# Altium integrated library TI Amplifiers and Linear Operational Amplifier Fully Differential Amplifier.IntLib: 262 symbols (part 7 of 11)
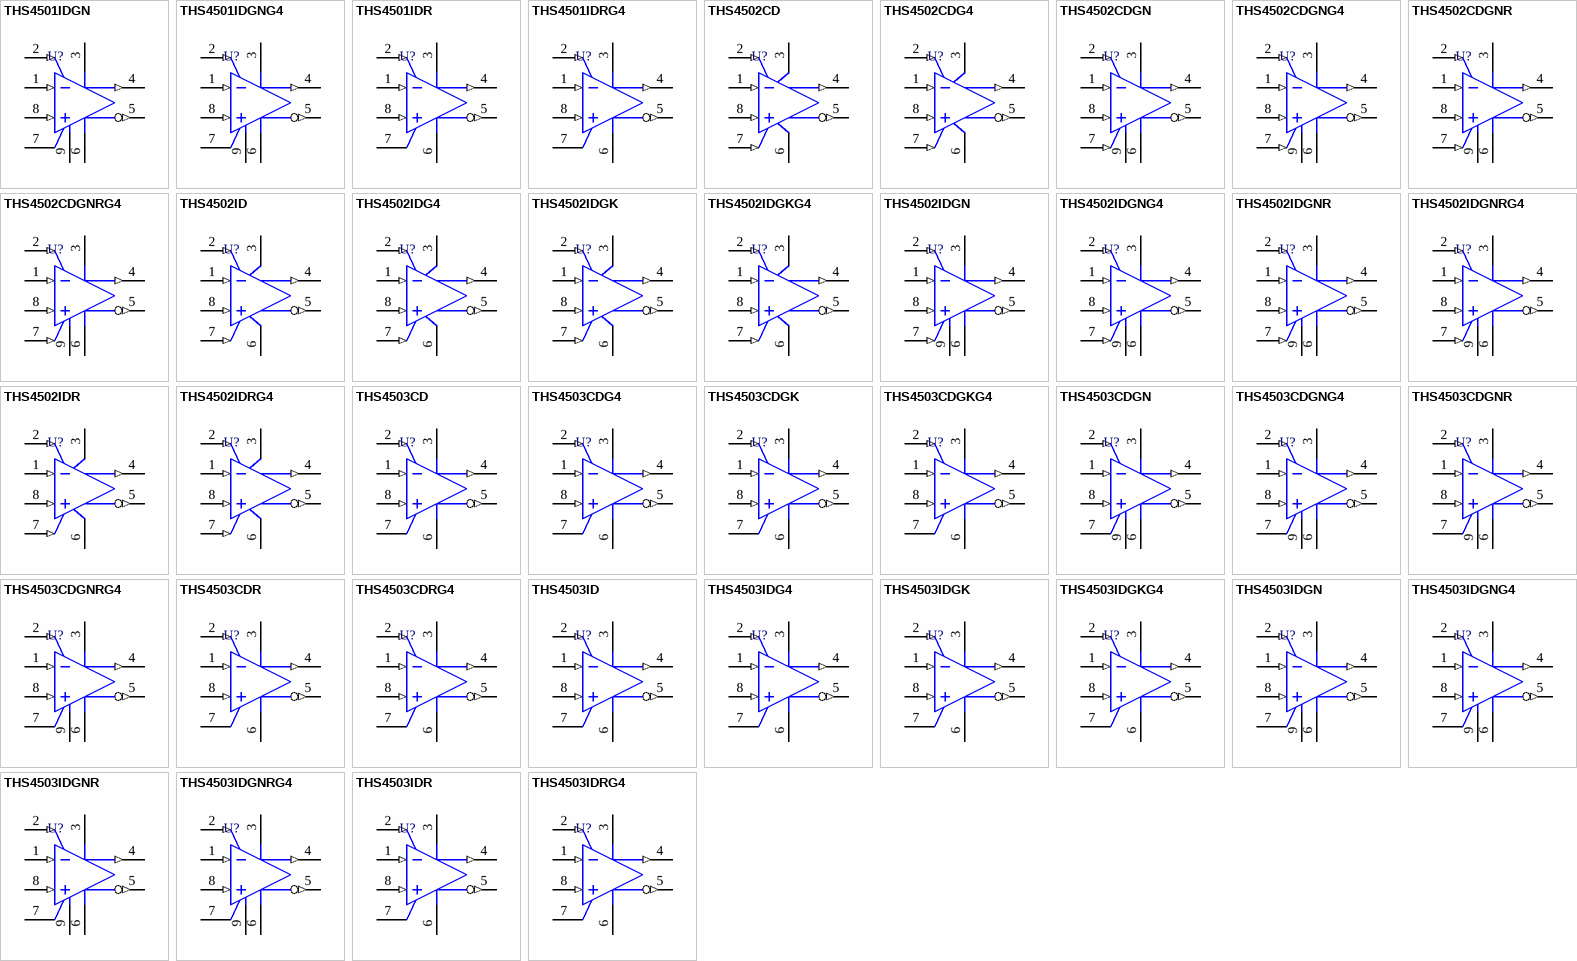
[diagram p13: symbols THS4501IDGN to THS4503IDRG4]

## THS4501IDGNG4
designator U?
High-Speed Fully Differential Amplifier, 4.5 to 15 V, -40 to 85 degC, 8-pin SOP (DGN8), Green (RoHS & no Sb/Br); Manufacturer: Texas Instruments; PartNumber: THS4501IDGNG4; 2nd Harmonic(dBc): 55; 3rd Harmonic(dBc): 60; @ MHz: 30; BW @ Acl(MHz): 320; Io(Typ)(mA): 100; Iq per channel(Max)(mA): 31; Number of Channels: 1; Offset Voltage Drift (+/-)(Max)(uV/Degrees Celsius: 10; Settling Time (0.1%)(Typ)(ns): 8.3; Slew Rate(Typ)(V/us): 1300; THD (Fc is 1 MHz)(Typ)(dB): -70; Vio(Max)(mV): -7; Vn at Flatband(Typ)(nV/rtHz): 7; Vs(Max)(V): 15; Vs(Min)(V): 4.5; DatasheetVersion: SLOS350F; PackageVersion: 4073271/F, 05/2011; PackageReference: DGN8-1760X1425TP; PackageDescription: 8-Pin Plastic Small Outline, Body 3 x 3 mm, Pitch 0.65 mm; Supplier 1: Digi-Key; Supplier Part Number 1: THS4501IDGNG4-ND; Supplier 2: Mouser; Supplier Part Number 2: 595-THS4501IDGNG4; Eco-Plan: Green (RoHS & no Sb/Br); SubFamily: Fully Differential Amplifier; Mounting Technology: Surface Mount; Code_JEDEC: MO-187; ComponentLink1Description: Manufacturer URL; ComponentLink1URL: http://www.ti.com/; ComponentLink2Description: Datasheet; ComponentLink2URL: http://www.ti.com/general/docs/lit/getliterature.tsp?genericPartNumber=THS4501&fileType=pdf; ComponentLink3Description: Package Specification; ComponentLink3URL: http://www.ti.com/litv/pdf/mpds046e
footprint TI-DGN8-1760X1425TP_N (SOP, 8-Leads, Body 3x3mm, Pitch 0.65mm, Thermal Pad 1.76x1.425mm, IPC Medium Density)
footprint TI-DGN8-1760X1425TP_L (SOP, 8-Leads, Body 3x3mm, Pitch 0.65mm, Thermal Pad 1.76x1.425mm, IPC High Density)
footprint TI-DGN8-1760X1425TP_M (SOP, 8-Leads, Body 3x3mm, Pitch 0.65mm, Thermal Pad 1.76 x 1.425 mm, IPC Low Density)
pins: 1 VIN- (in), 2 VOCM (in), 3 VS+ (power), 4 VOUT+ (out), 5 VOUT- (out), 6 VS- (power), 7 NC, 8 VIN+ (in), 9 EP

## THS4501IDR
designator U?
High-Speed Fully Differential Amplifier, 4.5 to 15 V, -40 to 85 degC, 8-pin SOIC (D8), Green (RoHS & no Sb/Br); Manufacturer: Texas Instruments; PartNumber: THS4501IDR; 2nd Harmonic(dBc): 55; 3rd Harmonic(dBc): 60; @ MHz: 30; BW @ Acl(MHz): 320; Io(Typ)(mA): 100; Iq per channel(Max)(mA): 31; Number of Channels: 1; Offset Voltage Drift (+/-)(Max)(uV/Degrees Celsius: 10; Settling Time (0.1%)(Typ)(ns): 8.3; Slew Rate(Typ)(V/us): 1300; THD (Fc is 1 MHz)(Typ)(dB): -70; Vio(Max)(mV): -7; Vn at Flatband(Typ)(nV/rtHz): 7; Vs(Max)(V): 15; Vs(Min)(V): 4.5; DatasheetVersion: SLOS350F; PackageVersion: 4040047-3/M, 06/2011; PackageReference: D8; PackageDescription: 8-Pin Plastic Small Outline, Body 4.9 x 3.9 mm, Pitch 1.27 mm; Supplier 1: Digi-Key; Supplier Part Number 1: THS4501IDR-ND; Supplier 2: Newark; Supplier Part Number 2: 76C6464; Supplier 3: Mouser; Supplier Part Number 3: 595-THS4501IDR; Eco-Plan: Green (RoHS & no Sb/Br); SubFamily: Fully Differential Amplifier; Mounting Technology: Surface Mount; Code_JEDEC: MS-012; ComponentLink1Description: Manufacturer URL; ComponentLink1URL: http://www.ti.com/; ComponentLink2Description: Datasheet; ComponentLink2URL: http://www.ti.com/general/docs/lit/getliterature.tsp?genericPartNumber=THS4501&fileType=pdf; ComponentLink3Description: Package Specification; ComponentLink3URL: http://www.ti.com/litv/pdf/msoi002j
footprint TI-D8_N (SOIC, 8-Leads, Body 4.9x3.9mm, Pitch 1.27mm, IPC Medium Density)
footprint TI-D8_L (SOIC, 8-Leads, Body 4.9x3.9mm, Pitch 1.27mm, IPC High Density)
footprint TI-D8_M (SOIC, 8-Leads, Body 4.9x3.9mm, Pitch 1.27mm, IPC Low Density)
pins: 1 VIN- (in), 2 VOCM (in), 3 VS+ (power), 4 VOUT+ (out), 5 VOUT- (out), 6 VS- (power), 7 NC, 8 VIN+ (in)

## THS4501IDRG4
designator U?
High-Speed Fully Differential Amplifier, 4.5 to 15 V, -40 to 85 degC, 8-pin SOIC (D8), Green (RoHS & no Sb/Br); Manufacturer: Texas Instruments; PartNumber: THS4501IDRG4; 2nd Harmonic(dBc): 55; 3rd Harmonic(dBc): 60; @ MHz: 30; BW @ Acl(MHz): 320; Io(Typ)(mA): 100; Iq per channel(Max)(mA): 31; Number of Channels: 1; Offset Voltage Drift (+/-)(Max)(uV/Degrees Celsius: 10; Settling Time (0.1%)(Typ)(ns): 8.3; Slew Rate(Typ)(V/us): 1300; THD (Fc is 1 MHz)(Typ)(dB): -70; Vio(Max)(mV): -7; Vn at Flatband(Typ)(nV/rtHz): 7; Vs(Max)(V): 15; Vs(Min)(V): 4.5; DatasheetVersion: SLOS350F; PackageVersion: 4040047-3/M, 06/2011; PackageReference: D8; PackageDescription: 8-Pin Plastic Small Outline, Body 4.9 x 3.9 mm, Pitch 1.27 mm; Supplier 1: Digi-Key; Supplier Part Number 1: THS4501IDRG4-ND; Supplier 2: Mouser; Supplier Part Number 2: 595-THS4501IDRG4; Eco-Plan: Green (RoHS & no Sb/Br); SubFamily: Fully Differential Amplifier; Mounting Technology: Surface Mount; Code_JEDEC: MS-012; ComponentLink1Description: Manufacturer URL; ComponentLink1URL: http://www.ti.com/; ComponentLink2Description: Datasheet; ComponentLink2URL: http://www.ti.com/general/docs/lit/getliterature.tsp?genericPartNumber=THS4501&fileType=pdf; ComponentLink3Description: Package Specification; ComponentLink3URL: http://www.ti.com/litv/pdf/msoi002j
footprint TI-D8_N (SOIC, 8-Leads, Body 4.9x3.9mm, Pitch 1.27mm, IPC Medium Density)
footprint TI-D8_L (SOIC, 8-Leads, Body 4.9x3.9mm, Pitch 1.27mm, IPC High Density)
footprint TI-D8_M (SOIC, 8-Leads, Body 4.9x3.9mm, Pitch 1.27mm, IPC Low Density)
pins: 1 VIN- (in), 2 VOCM (in), 3 VS+ (power), 4 VOUT+ (out), 5 VOUT- (out), 6 VS- (power), 7 NC, 8 VIN+ (in)

## THS4502CD
designator U?
High-Speed Fully-Differential Amplifier, 4.5 to 15 V, 0 to 70 degC, 8-pin SOIC (D8), Green (RoHS & no Sb/Br); Manufacturer: Texas Instruments; PartNumber: THS4502CD; 2nd Harmonic(dBc): 74; 3rd Harmonic(dBc): 78; @ MHz: 30; BW @ Acl(MHz): 370; Io(Typ)(mA): 120; Iq per channel(Max)(mA): 34; Number of Channels: 1; Offset Voltage Drift (+/-)(Max)(uV/Degrees Celsius: 10; Settling Time (0.1%)(Typ)(ns): 6.3; Slew Rate(Typ)(V/us): 2800; SubFamily: Fully Differential Amplifier; THD (Fc is 1 MHz)(Typ)(dB): -99; Vio(Max)(mV): -4; Vn at Flatband(Typ)(nV/rtHz): 6.8; Vs(Max)(V): 15; Vs(Min)(V): 4.5; DatasheetVersion: SLOS352E; PackageVersion: 4040047-3/M, 06/2011; PackageReference: D8; PackageDescription: 8-Pin Plastic Small Outline, Body 4.9 x 3.9 mm, Pitch 1.27 mm; Supplier 1: Digi-Key; Supplier Part Number 1: 296-34225-5-ND; Supplier 2: Newark; Supplier Part Number 2: 76C6465; Supplier 3: Mouser; Supplier Part Number 3: 595-THS4502CD; Eco-Plan: Green (RoHS & no Sb/Br); Mounting Technology: Surface Mount; Code_JEDEC: MS-012; ComponentLink1Description: Manufacturer URL; ComponentLink1URL: http://www.ti.com/; ComponentLink2Description: Datasheet; ComponentLink2URL: http://www.ti.com/general/docs/lit/getliterature.tsp?genericPartNumber=THS4502&fileType=pdf; ComponentLink3Description: Package Specification; ComponentLink3URL: http://www.ti.com/litv/pdf/msoi002j
footprint TI-D8_N (SOIC, 8-Leads, Body 4.9x3.9mm, Pitch 1.27mm, IPC Medium Density)
footprint TI-D8_L (SOIC, 8-Leads, Body 4.9x3.9mm, Pitch 1.27mm, IPC High Density)
footprint TI-D8_M (SOIC, 8-Leads, Body 4.9x3.9mm, Pitch 1.27mm, IPC Low Density)
pins: 1 VIN- (in) "Inverting amplifier input", 2 VOCM (in) "Common-mode voltage input", 3 VS+ (power) "Amplifier positive power-supply input", 4 VOUT+ (out) "Noninverting amplifier output", 5 VOUT- (out) "Inverting amplifier output", 6 VS- (power) "Amplifier negative power-supply input. Note that VS- is tied together on multi-channel devices.", 7 ~{PD} (in) "Power down. P\D\ = logic low puts device into low-power mode. P\D\ = logic high or open for normal operation.", 8 VIN+ (in) "Noninverting amplifier input"

## THS4502CDG4
designator U?
High-Speed Fully-Differential Amplifier, 4.5 to 15 V, 0 to 70 degC, 8-pin SOIC (D8), Green (RoHS & no Sb/Br); Manufacturer: Texas Instruments; PartNumber: THS4502CDG4; 2nd Harmonic(dBc): 74; 3rd Harmonic(dBc): 78; @ MHz: 30; BW @ Acl(MHz): 370; Io(Typ)(mA): 120; Iq per channel(Max)(mA): 34; Number of Channels: 1; Offset Voltage Drift (+/-)(Max)(uV/Degrees Celsius: 10; Settling Time (0.1%)(Typ)(ns): 6.3; Slew Rate(Typ)(V/us): 2800; SubFamily: Fully Differential Amplifier; THD (Fc is 1 MHz)(Typ)(dB): -99; Vio(Max)(mV): -4; Vn at Flatband(Typ)(nV/rtHz): 6.8; Vs(Max)(V): 15; Vs(Min)(V): 4.5; DatasheetVersion: SLOS352E; PackageVersion: 4040047-3/M, 06/2011; PackageReference: D8; PackageDescription: 8-Pin Plastic Small Outline, Body 4.9 x 3.9 mm, Pitch 1.27 mm; Supplier 1: Digi-Key; Supplier Part Number 1: THS4502CDG4-ND; Supplier 2: Mouser; Supplier Part Number 2: 595-THS4502CDG4; Eco-Plan: Green (RoHS & no Sb/Br); Mounting Technology: Surface Mount; Code_JEDEC: MS-012; ComponentLink1Description: Manufacturer URL; ComponentLink1URL: http://www.ti.com/; ComponentLink2Description: Datasheet; ComponentLink2URL: http://www.ti.com/general/docs/lit/getliterature.tsp?genericPartNumber=THS4502&fileType=pdf; ComponentLink3Description: Package Specification; ComponentLink3URL: http://www.ti.com/litv/pdf/msoi002j
footprint TI-D8_N (SOIC, 8-Leads, Body 4.9x3.9mm, Pitch 1.27mm, IPC Medium Density)
footprint TI-D8_L (SOIC, 8-Leads, Body 4.9x3.9mm, Pitch 1.27mm, IPC High Density)
footprint TI-D8_M (SOIC, 8-Leads, Body 4.9x3.9mm, Pitch 1.27mm, IPC Low Density)
pins: 1 VIN- (in) "Inverting amplifier input", 2 VOCM (in) "Common-mode voltage input", 3 VS+ (power) "Amplifier positive power-supply input", 4 VOUT+ (out) "Noninverting amplifier output", 5 VOUT- (out) "Inverting amplifier output", 6 VS- (power) "Amplifier negative power-supply input. Note that VS- is tied together on multi-channel devices.", 7 ~{PD} (in) "Power down. P\D\ = logic low puts device into low-power mode. P\D\ = logic high or open for normal operation.", 8 VIN+ (in) "Noninverting amplifier input"

## THS4502CDGN
designator U?
High-Speed Fully-Differential Amplifier, 4.5 to 15 V, 0 to 70 degC, 8-pin SOP (DGN8), Green (RoHS & no Sb/Br); Manufacturer: Texas Instruments; PartNumber: THS4502CDGN; 2nd Harmonic(dBc): 74; 3rd Harmonic(dBc): 78; @ MHz: 30; BW @ Acl(MHz): 370; Io(Typ)(mA): 120; Iq per channel(Max)(mA): 34; Number of Channels: 1; Offset Voltage Drift (+/-)(Max)(uV/Degrees Celsius: 10; Settling Time (0.1%)(Typ)(ns): 6.3; Slew Rate(Typ)(V/us): 2800; SubFamily: Fully Differential Amplifier; THD (Fc is 1 MHz)(Typ)(dB): -99; Vio(Max)(mV): -4; Vn at Flatband(Typ)(nV/rtHz): 6.8; Vs(Max)(V): 15; Vs(Min)(V): 4.5; DatasheetVersion: SLOS352E; PackageVersion: 4073271/F, 05/2011; PackageReference: DGN8-1760X1425TP; PackageDescription: 8-Pin Plastic Small Outline, Body 3 x 3 mm, Pitch 0.65 mm; Supplier 1: Digi-Key; Supplier Part Number 1: 296-34226-5-ND; Supplier 2: Mouser; Supplier Part Number 2: 595-THS4502CDGN; Eco-Plan: Green (RoHS & no Sb/Br); Mounting Technology: Surface Mount; Code_JEDEC: MO-187; ComponentLink1Description: Manufacturer URL; ComponentLink1URL: http://www.ti.com/; ComponentLink2Description: Datasheet; ComponentLink2URL: http://www.ti.com/general/docs/lit/getliterature.tsp?genericPartNumber=THS4502&fileType=pdf; ComponentLink3Description: Package Specification; ComponentLink3URL: http://www.ti.com/litv/pdf/mpds046e
footprint TI-DGN8-1760X1425TP_N (SOP, 8-Leads, Body 3x3mm, Pitch 0.65mm, Thermal Pad 1.76x1.425mm, IPC Medium Density)
footprint TI-DGN8-1760X1425TP_L (SOP, 8-Leads, Body 3x3mm, Pitch 0.65mm, Thermal Pad 1.76x1.425mm, IPC High Density)
footprint TI-DGN8-1760X1425TP_M (SOP, 8-Leads, Body 3x3mm, Pitch 0.65mm, Thermal Pad 1.76 x 1.425 mm, IPC Low Density)
pins: 1 VIN- (in), 2 VOCM (in), 3 VS+ (power), 4 VOUT+ (out), 5 VOUT- (out), 6 VS- (power), 7 ~{PD} (in), 8 VIN+ (in), 9 EP

## THS4502CDGNG4
designator U?
High-Speed Fully-Differential Amplifier, 4.5 to 15 V, 0 to 70 degC, 8-pin SOP (DGN8), Green (RoHS & no Sb/Br); Manufacturer: Texas Instruments; PartNumber: THS4502CDGNG4; 2nd Harmonic(dBc): 74; 3rd Harmonic(dBc): 78; @ MHz: 30; BW @ Acl(MHz): 370; Io(Typ)(mA): 120; Iq per channel(Max)(mA): 34; Number of Channels: 1; Offset Voltage Drift (+/-)(Max)(uV/Degrees Celsius: 10; Settling Time (0.1%)(Typ)(ns): 6.3; Slew Rate(Typ)(V/us): 2800; SubFamily: Fully Differential Amplifier; THD (Fc is 1 MHz)(Typ)(dB): -99; Vio(Max)(mV): -4; Vn at Flatband(Typ)(nV/rtHz): 6.8; Vs(Max)(V): 15; Vs(Min)(V): 4.5; DatasheetVersion: SLOS352E; PackageVersion: 4073271/F, 05/2011; PackageReference: DGN8-1760X1425TP; PackageDescription: 8-Pin Plastic Small Outline, Body 3 x 3 mm, Pitch 0.65 mm; Supplier 1: Digi-Key; Supplier Part Number 1: THS4502CDGNG4-ND; Supplier 2: Mouser; Supplier Part Number 2: 595-THS4502CDGNG4; Eco-Plan: Green (RoHS & no Sb/Br); Mounting Technology: Surface Mount; Code_JEDEC: MO-187; ComponentLink1Description: Manufacturer URL; ComponentLink1URL: http://www.ti.com/; ComponentLink2Description: Datasheet; ComponentLink2URL: http://www.ti.com/general/docs/lit/getliterature.tsp?genericPartNumber=THS4502&fileType=pdf; ComponentLink3Description: Package Specification; ComponentLink3URL: http://www.ti.com/litv/pdf/mpds046e
footprint TI-DGN8-1760X1425TP_N (SOP, 8-Leads, Body 3x3mm, Pitch 0.65mm, Thermal Pad 1.76x1.425mm, IPC Medium Density)
footprint TI-DGN8-1760X1425TP_L (SOP, 8-Leads, Body 3x3mm, Pitch 0.65mm, Thermal Pad 1.76x1.425mm, IPC High Density)
footprint TI-DGN8-1760X1425TP_M (SOP, 8-Leads, Body 3x3mm, Pitch 0.65mm, Thermal Pad 1.76 x 1.425 mm, IPC Low Density)
pins: 1 VIN- (in), 2 VOCM (in), 3 VS+ (power), 4 VOUT+ (out), 5 VOUT- (out), 6 VS- (power), 7 ~{PD} (in), 8 VIN+ (in), 9 EP

## THS4502CDGNR
designator U?
High-Speed Fully-Differential Amplifier, 4.5 to 15 V, 0 to 70 degC, 8-pin SOP (DGN8), Green (RoHS & no Sb/Br); Manufacturer: Texas Instruments; PartNumber: THS4502CDGNR; 2nd Harmonic(dBc): 74; 3rd Harmonic(dBc): 78; @ MHz: 30; BW @ Acl(MHz): 370; Io(Typ)(mA): 120; Iq per channel(Max)(mA): 34; Number of Channels: 1; Offset Voltage Drift (+/-)(Max)(uV/Degrees Celsius: 10; Settling Time (0.1%)(Typ)(ns): 6.3; Slew Rate(Typ)(V/us): 2800; SubFamily: Fully Differential Amplifier; THD (Fc is 1 MHz)(Typ)(dB): -99; Vio(Max)(mV): -4; Vn at Flatband(Typ)(nV/rtHz): 6.8; Vs(Max)(V): 15; Vs(Min)(V): 4.5; DatasheetVersion: SLOS352E; PackageVersion: 4073271/F, 05/2011; PackageReference: DGN8-1760X1425TP; PackageDescription: 8-Pin Plastic Small Outline, Body 3 x 3 mm, Pitch 0.65 mm; Supplier 1: Digi-Key; Supplier Part Number 1: THS4502CDGNR-ND; Supplier 2: Mouser; Supplier Part Number 2: 595-THS4502CDGNR; Eco-Plan: Green (RoHS & no Sb/Br); Mounting Technology: Surface Mount; Code_JEDEC: MO-187; ComponentLink1Description: Manufacturer URL; ComponentLink1URL: http://www.ti.com/; ComponentLink2Description: Datasheet; ComponentLink2URL: http://www.ti.com/general/docs/lit/getliterature.tsp?genericPartNumber=THS4502&fileType=pdf; ComponentLink3Description: Package Specification; ComponentLink3URL: http://www.ti.com/litv/pdf/mpds046e
footprint TI-DGN8-1760X1425TP_N (SOP, 8-Leads, Body 3x3mm, Pitch 0.65mm, Thermal Pad 1.76x1.425mm, IPC Medium Density)
footprint TI-DGN8-1760X1425TP_L (SOP, 8-Leads, Body 3x3mm, Pitch 0.65mm, Thermal Pad 1.76x1.425mm, IPC High Density)
footprint TI-DGN8-1760X1425TP_M (SOP, 8-Leads, Body 3x3mm, Pitch 0.65mm, Thermal Pad 1.76 x 1.425 mm, IPC Low Density)
pins: 1 VIN- (in), 2 VOCM (in), 3 VS+ (power), 4 VOUT+ (out), 5 VOUT- (out), 6 VS- (power), 7 ~{PD} (in), 8 VIN+ (in), 9 EP

## THS4502CDGNRG4
designator U?
High-Speed Fully-Differential Amplifier, 4.5 to 15 V, 0 to 70 degC, 8-pin SOP (DGN8), Green (RoHS & no Sb/Br); Manufacturer: Texas Instruments; PartNumber: THS4502CDGNRG4; 2nd Harmonic(dBc): 74; 3rd Harmonic(dBc): 78; @ MHz: 30; BW @ Acl(MHz): 370; Io(Typ)(mA): 120; Iq per channel(Max)(mA): 34; Number of Channels: 1; Offset Voltage Drift (+/-)(Max)(uV/Degrees Celsius: 10; Settling Time (0.1%)(Typ)(ns): 6.3; Slew Rate(Typ)(V/us): 2800; SubFamily: Fully Differential Amplifier; THD (Fc is 1 MHz)(Typ)(dB): -99; Vio(Max)(mV): -4; Vn at Flatband(Typ)(nV/rtHz): 6.8; Vs(Max)(V): 15; Vs(Min)(V): 4.5; DatasheetVersion: SLOS352E; PackageVersion: 4073271/F, 05/2011; PackageReference: DGN8-1760X1425TP; PackageDescription: 8-Pin Plastic Small Outline, Body 3 x 3 mm, Pitch 0.65 mm; Supplier 1: Digi-Key; Supplier Part Number 1: THS4502CDGNRG4-ND; Supplier 2: Mouser; Supplier Part Number 2: 595-THS4502CDGNRG4; Eco-Plan: Green (RoHS & no Sb/Br); Mounting Technology: Surface Mount; Code_JEDEC: MO-187; ComponentLink1Description: Manufacturer URL; ComponentLink1URL: http://www.ti.com/; ComponentLink2Description: Datasheet; ComponentLink2URL: http://www.ti.com/general/docs/lit/getliterature.tsp?genericPartNumber=THS4502&fileType=pdf; ComponentLink3Description: Package Specification; ComponentLink3URL: http://www.ti.com/litv/pdf/mpds046e
footprint TI-DGN8-1760X1425TP_N (SOP, 8-Leads, Body 3x3mm, Pitch 0.65mm, Thermal Pad 1.76x1.425mm, IPC Medium Density)
footprint TI-DGN8-1760X1425TP_L (SOP, 8-Leads, Body 3x3mm, Pitch 0.65mm, Thermal Pad 1.76x1.425mm, IPC High Density)
footprint TI-DGN8-1760X1425TP_M (SOP, 8-Leads, Body 3x3mm, Pitch 0.65mm, Thermal Pad 1.76 x 1.425 mm, IPC Low Density)
pins: 1 VIN- (in), 2 VOCM (in), 3 VS+ (power), 4 VOUT+ (out), 5 VOUT- (out), 6 VS- (power), 7 ~{PD} (in), 8 VIN+ (in), 9 EP

## THS4502ID
designator U?
High-Speed Fully-Differential Amplifier, 4.5 to 15 V, -40 to 85 degC, 8-pin SOIC (D8), Green (RoHS & no Sb/Br); Manufacturer: Texas Instruments; PartNumber: THS4502ID; 2nd Harmonic(dBc): 74; 3rd Harmonic(dBc): 78; @ MHz: 30; BW @ Acl(MHz): 370; Io(Typ)(mA): 120; Iq per channel(Max)(mA): 34; Number of Channels: 1; Offset Voltage Drift (+/-)(Max)(uV/Degrees Celsius: 10; Settling Time (0.1%)(Typ)(ns): 6.3; Slew Rate(Typ)(V/us): 2800; SubFamily: Fully Differential Amplifier; THD (Fc is 1 MHz)(Typ)(dB): -99; Vio(Max)(mV): -4; Vn at Flatband(Typ)(nV/rtHz): 6.8; Vs(Max)(V): 15; Vs(Min)(V): 4.5; DatasheetVersion: SLOS352E; PackageVersion: 4040047-3/M, 06/2011; PackageReference: D8; PackageDescription: 8-Pin Plastic Small Outline, Body 4.9 x 3.9 mm, Pitch 1.27 mm; Supplier 1: Digi-Key; Supplier Part Number 1: 296-12937-5-ND; Supplier 2: Farnell; Supplier Part Number 2: 8453381; Supplier 3: Newark; Supplier Part Number 3: 76C6469; Supplier 4: Mouser; Supplier Part Number 4: 595-THS4502ID; Eco-Plan: Green (RoHS & no Sb/Br); Mounting Technology: Surface Mount; Code_JEDEC: MS-012; ComponentLink1Description: Manufacturer URL; ComponentLink1URL: http://www.ti.com/; ComponentLink2Description: Datasheet; ComponentLink2URL: http://www.ti.com/general/docs/lit/getliterature.tsp?genericPartNumber=THS4502&fileType=pdf; ComponentLink3Description: Package Specification; ComponentLink3URL: http://www.ti.com/litv/pdf/msoi002j
footprint TI-D8_N (SOIC, 8-Leads, Body 4.9x3.9mm, Pitch 1.27mm, IPC Medium Density)
footprint TI-D8_L (SOIC, 8-Leads, Body 4.9x3.9mm, Pitch 1.27mm, IPC High Density)
footprint TI-D8_M (SOIC, 8-Leads, Body 4.9x3.9mm, Pitch 1.27mm, IPC Low Density)
pins: 1 VIN- (in) "Inverting amplifier input", 2 VOCM (in) "Common-mode voltage input", 3 VS+ (power) "Amplifier positive power-supply input", 4 VOUT+ (out) "Noninverting amplifier output", 5 VOUT- (out) "Inverting amplifier output", 6 VS- (power) "Amplifier negative power-supply input. Note that VS- is tied together on multi-channel devices.", 7 ~{PD} (in) "Power down. P\D\ = logic low puts device into low-power mode. P\D\ = logic high or open for normal operation.", 8 VIN+ (in) "Noninverting amplifier input"

## THS4502IDG4
designator U?
High-Speed Fully-Differential Amplifier, 4.5 to 15 V, -40 to 85 degC, 8-pin SOIC (D8), Green (RoHS & no Sb/Br); Manufacturer: Texas Instruments; PartNumber: THS4502IDG4; 2nd Harmonic(dBc): 74; 3rd Harmonic(dBc): 78; @ MHz: 30; BW @ Acl(MHz): 370; Io(Typ)(mA): 120; Iq per channel(Max)(mA): 34; Number of Channels: 1; Offset Voltage Drift (+/-)(Max)(uV/Degrees Celsius: 10; Settling Time (0.1%)(Typ)(ns): 6.3; Slew Rate(Typ)(V/us): 2800; SubFamily: Fully Differential Amplifier; THD (Fc is 1 MHz)(Typ)(dB): -99; Vio(Max)(mV): -4; Vn at Flatband(Typ)(nV/rtHz): 6.8; Vs(Max)(V): 15; Vs(Min)(V): 4.5; DatasheetVersion: SLOS352E; PackageVersion: 4040047-3/M, 06/2011; PackageReference: D8; PackageDescription: 8-Pin Plastic Small Outline, Body 4.9 x 3.9 mm, Pitch 1.27 mm; Supplier 1: Digi-Key; Supplier Part Number 1: THS4502IDG4-ND; Supplier 2: Mouser; Supplier Part Number 2: 595-THS4502IDG4; Eco-Plan: Green (RoHS & no Sb/Br); Mounting Technology: Surface Mount; Code_JEDEC: MS-012; ComponentLink1Description: Manufacturer URL; ComponentLink1URL: http://www.ti.com/; ComponentLink2Description: Datasheet; ComponentLink2URL: http://www.ti.com/general/docs/lit/getliterature.tsp?genericPartNumber=THS4502&fileType=pdf; ComponentLink3Description: Package Specification; ComponentLink3URL: http://www.ti.com/litv/pdf/msoi002j
footprint TI-D8_N (SOIC, 8-Leads, Body 4.9x3.9mm, Pitch 1.27mm, IPC Medium Density)
footprint TI-D8_L (SOIC, 8-Leads, Body 4.9x3.9mm, Pitch 1.27mm, IPC High Density)
footprint TI-D8_M (SOIC, 8-Leads, Body 4.9x3.9mm, Pitch 1.27mm, IPC Low Density)
pins: 1 VIN- (in) "Inverting amplifier input", 2 VOCM (in) "Common-mode voltage input", 3 VS+ (power) "Amplifier positive power-supply input", 4 VOUT+ (out) "Noninverting amplifier output", 5 VOUT- (out) "Inverting amplifier output", 6 VS- (power) "Amplifier negative power-supply input. Note that VS- is tied together on multi-channel devices.", 7 ~{PD} (in) "Power down. P\D\ = logic low puts device into low-power mode. P\D\ = logic high or open for normal operation.", 8 VIN+ (in) "Noninverting amplifier input"

## THS4502IDGK
designator U?
High-Speed Fully-Differential Amplifier, 4.5 to 15 V, -40 to 85 degC, 8-pin SOP (DGK8), Green (RoHS & no Sb/Br); Manufacturer: Texas Instruments; PartNumber: THS4502IDGK; 2nd Harmonic(dBc): 74; 3rd Harmonic(dBc): 78; @ MHz: 30; BW @ Acl(MHz): 370; Io(Typ)(mA): 120; Iq per channel(Max)(mA): 34; Number of Channels: 1; Offset Voltage Drift (+/-)(Max)(uV/Degrees Celsius: 10; Settling Time (0.1%)(Typ)(ns): 6.3; Slew Rate(Typ)(V/us): 2800; SubFamily: Fully Differential Amplifier; THD (Fc is 1 MHz)(Typ)(dB): -99; Vio(Max)(mV): -4; Vn at Flatband(Typ)(nV/rtHz): 6.8; Vs(Max)(V): 15; Vs(Min)(V): 4.5; DatasheetVersion: SLOS352E; PackageVersion: 4073329/E, 05/2006; PackageReference: DGK8; PackageDescription: 8-Pin Thin Small Outline, Body 3 x 3 mm, Pitch 0.65 mm; Supplier 1: Digi-Key; Supplier Part Number 1: 296-16789-5-ND; Supplier 2: Mouser; Supplier Part Number 2: 595-THS4502IDGK; Eco-Plan: Green (RoHS & no Sb/Br); Mounting Technology: Surface Mount; Code_JEDEC: MO-187; ComponentLink1Description: Manufacturer URL; ComponentLink1URL: http://www.ti.com/; ComponentLink2Description: Datasheet; ComponentLink2URL: http://www.ti.com/general/docs/lit/getliterature.tsp?genericPartNumber=THS4502&fileType=pdf; ComponentLink3Description: Package Specification; ComponentLink3URL: http://www.ti.com/litv/pdf/mpds028d
footprint TI-DGK8_N (SOP, 8-Leads, Body 3x3mm, Pitch 0.65mm, IPC Medium Density)
footprint TI-DGK8_L (SOP, 8-Leads, Body 3x3mm, Pitch 0.65mm, IPC High Density)
footprint TI-DGK8_M (SOP, 8-Leads, Body 3x3mm, Pitch 0.65mm, IPC Low Density)
pins: 1 VIN- (in) "Inverting amplifier input", 2 VOCM (in) "Common-mode voltage input", 3 VS+ (power) "Amplifier positive power-supply input", 4 VOUT+ (out) "Noninverting amplifier output", 5 VOUT- (out) "Inverting amplifier output", 6 VS- (power) "Amplifier negative power-supply input. Note that VS- is tied together on multi-channel devices.", 7 ~{PD} (in) "Power down. P\D\ = logic low puts device into low-power mode. P\D\ = logic high or open for normal operation.", 8 VIN+ (in) "Noninverting amplifier input"

## THS4502IDGKG4
designator U?
High-Speed Fully-Differential Amplifier, 4.5 to 15 V, -40 to 85 degC, 8-pin SOP (DGK8), Green (RoHS & no Sb/Br); Manufacturer: Texas Instruments; PartNumber: THS4502IDGKG4; 2nd Harmonic(dBc): 74; 3rd Harmonic(dBc): 78; @ MHz: 30; BW @ Acl(MHz): 370; Io(Typ)(mA): 120; Iq per channel(Max)(mA): 34; Number of Channels: 1; Offset Voltage Drift (+/-)(Max)(uV/Degrees Celsius: 10; Settling Time (0.1%)(Typ)(ns): 6.3; Slew Rate(Typ)(V/us): 2800; SubFamily: Fully Differential Amplifier; THD (Fc is 1 MHz)(Typ)(dB): -99; Vio(Max)(mV): -4; Vn at Flatband(Typ)(nV/rtHz): 6.8; Vs(Max)(V): 15; Vs(Min)(V): 4.5; DatasheetVersion: SLOS352E; PackageVersion: 4073329/E, 05/2006; PackageReference: DGK8; PackageDescription: 8-Pin Thin Small Outline, Body 3 x 3 mm, Pitch 0.65 mm; Supplier 1: Digi-Key; Supplier Part Number 1: THS4502IDGKG4-ND; Supplier 2: Mouser; Supplier Part Number 2: 595-THS4502IDGKG4; Eco-Plan: Green (RoHS & no Sb/Br); Mounting Technology: Surface Mount; Code_JEDEC: MO-187; ComponentLink1Description: Manufacturer URL; ComponentLink1URL: http://www.ti.com/; ComponentLink2Description: Datasheet; ComponentLink2URL: http://www.ti.com/general/docs/lit/getliterature.tsp?genericPartNumber=THS4502&fileType=pdf; ComponentLink3Description: Package Specification; ComponentLink3URL: http://www.ti.com/litv/pdf/mpds028d
footprint TI-DGK8_N (SOP, 8-Leads, Body 3x3mm, Pitch 0.65mm, IPC Medium Density)
footprint TI-DGK8_L (SOP, 8-Leads, Body 3x3mm, Pitch 0.65mm, IPC High Density)
footprint TI-DGK8_M (SOP, 8-Leads, Body 3x3mm, Pitch 0.65mm, IPC Low Density)
pins: 1 VIN- (in) "Inverting amplifier input", 2 VOCM (in) "Common-mode voltage input", 3 VS+ (power) "Amplifier positive power-supply input", 4 VOUT+ (out) "Noninverting amplifier output", 5 VOUT- (out) "Inverting amplifier output", 6 VS- (power) "Amplifier negative power-supply input. Note that VS- is tied together on multi-channel devices.", 7 ~{PD} (in) "Power down. P\D\ = logic low puts device into low-power mode. P\D\ = logic high or open for normal operation.", 8 VIN+ (in) "Noninverting amplifier input"

## THS4502IDGN
designator U?
High-Speed Fully-Differential Amplifier, 4.5 to 15 V, -40 to 85 degC, 8-pin SOP (DGN8), Green (RoHS & no Sb/Br); Manufacturer: Texas Instruments; PartNumber: THS4502IDGN; 2nd Harmonic(dBc): 74; 3rd Harmonic(dBc): 78; @ MHz: 30; BW @ Acl(MHz): 370; Io(Typ)(mA): 120; Iq per channel(Max)(mA): 34; Number of Channels: 1; Offset Voltage Drift (+/-)(Max)(uV/Degrees Celsius: 10; Settling Time (0.1%)(Typ)(ns): 6.3; Slew Rate(Typ)(V/us): 2800; SubFamily: Fully Differential Amplifier; THD (Fc is 1 MHz)(Typ)(dB): -99; Vio(Max)(mV): -4; Vn at Flatband(Typ)(nV/rtHz): 6.8; Vs(Max)(V): 15; Vs(Min)(V): 4.5; DatasheetVersion: SLOS352E; PackageVersion: 4073271/F, 05/2011; PackageReference: DGN8-1760X1425TP; PackageDescription: 8-Pin Plastic Small Outline, Body 3 x 3 mm, Pitch 0.65 mm; Supplier 1: Digi-Key; Supplier Part Number 1: 296-13047-5-ND; Supplier 2: Newark; Supplier Part Number 2: 76C6470; Supplier 3: Mouser; Supplier Part Number 3: 595-THS4502IDGN; Eco-Plan: Green (RoHS & no Sb/Br); Mounting Technology: Surface Mount; Code_JEDEC: MO-187; ComponentLink1Description: Manufacturer URL; ComponentLink1URL: http://www.ti.com/; ComponentLink2Description: Datasheet; ComponentLink2URL: http://www.ti.com/general/docs/lit/getliterature.tsp?genericPartNumber=THS4502&fileType=pdf; ComponentLink3Description: Package Specification; ComponentLink3URL: http://www.ti.com/litv/pdf/mpds046e
footprint TI-DGN8-1760X1425TP_N (SOP, 8-Leads, Body 3x3mm, Pitch 0.65mm, Thermal Pad 1.76x1.425mm, IPC Medium Density)
footprint TI-DGN8-1760X1425TP_L (SOP, 8-Leads, Body 3x3mm, Pitch 0.65mm, Thermal Pad 1.76x1.425mm, IPC High Density)
footprint TI-DGN8-1760X1425TP_M (SOP, 8-Leads, Body 3x3mm, Pitch 0.65mm, Thermal Pad 1.76 x 1.425 mm, IPC Low Density)
pins: 1 VIN- (in), 2 VOCM (in), 3 VS+ (power), 4 VOUT+ (out), 5 VOUT- (out), 6 VS- (power), 7 ~{PD} (in), 8 VIN+ (in), 9 EP

## THS4502IDGNG4
designator U?
High-Speed Fully-Differential Amplifier, 4.5 to 15 V, -40 to 85 degC, 8-pin SOP (DGN8), Green (RoHS & no Sb/Br); Manufacturer: Texas Instruments; PartNumber: THS4502IDGNG4; 2nd Harmonic(dBc): 74; 3rd Harmonic(dBc): 78; @ MHz: 30; BW @ Acl(MHz): 370; Io(Typ)(mA): 120; Iq per channel(Max)(mA): 34; Number of Channels: 1; Offset Voltage Drift (+/-)(Max)(uV/Degrees Celsius: 10; Settling Time (0.1%)(Typ)(ns): 6.3; Slew Rate(Typ)(V/us): 2800; SubFamily: Fully Differential Amplifier; THD (Fc is 1 MHz)(Typ)(dB): -99; Vio(Max)(mV): -4; Vn at Flatband(Typ)(nV/rtHz): 6.8; Vs(Max)(V): 15; Vs(Min)(V): 4.5; DatasheetVersion: SLOS352E; PackageVersion: 4073271/F, 05/2011; PackageReference: DGN8-1760X1425TP; PackageDescription: 8-Pin Plastic Small Outline, Body 3 x 3 mm, Pitch 0.65 mm; Supplier 1: Digi-Key; Supplier Part Number 1: THS4502IDGNG4-ND; Supplier 2: Mouser; Supplier Part Number 2: 595-THS4502IDGNG4; Eco-Plan: Green (RoHS & no Sb/Br); Mounting Technology: Surface Mount; Code_JEDEC: MO-187; ComponentLink1Description: Manufacturer URL; ComponentLink1URL: http://www.ti.com/; ComponentLink2Description: Datasheet; ComponentLink2URL: http://www.ti.com/general/docs/lit/getliterature.tsp?genericPartNumber=THS4502&fileType=pdf; ComponentLink3Description: Package Specification; ComponentLink3URL: http://www.ti.com/litv/pdf/mpds046e
footprint TI-DGN8-1760X1425TP_N (SOP, 8-Leads, Body 3x3mm, Pitch 0.65mm, Thermal Pad 1.76x1.425mm, IPC Medium Density)
footprint TI-DGN8-1760X1425TP_L (SOP, 8-Leads, Body 3x3mm, Pitch 0.65mm, Thermal Pad 1.76x1.425mm, IPC High Density)
footprint TI-DGN8-1760X1425TP_M (SOP, 8-Leads, Body 3x3mm, Pitch 0.65mm, Thermal Pad 1.76 x 1.425 mm, IPC Low Density)
pins: 1 VIN- (in), 2 VOCM (in), 3 VS+ (power), 4 VOUT+ (out), 5 VOUT- (out), 6 VS- (power), 7 ~{PD} (in), 8 VIN+ (in), 9 EP

## THS4502IDGNR
designator U?
High-Speed Fully-Differential Amplifier, 4.5 to 15 V, -40 to 85 degC, 8-pin SOP (DGN8), Green (RoHS & no Sb/Br); Manufacturer: Texas Instruments; PartNumber: THS4502IDGNR; 2nd Harmonic(dBc): 74; 3rd Harmonic(dBc): 78; @ MHz: 30; BW @ Acl(MHz): 370; Io(Typ)(mA): 120; Iq per channel(Max)(mA): 34; Number of Channels: 1; Offset Voltage Drift (+/-)(Max)(uV/Degrees Celsius: 10; Settling Time (0.1%)(Typ)(ns): 6.3; Slew Rate(Typ)(V/us): 2800; SubFamily: Fully Differential Amplifier; THD (Fc is 1 MHz)(Typ)(dB): -99; Vio(Max)(mV): -4; Vn at Flatband(Typ)(nV/rtHz): 6.8; Vs(Max)(V): 15; Vs(Min)(V): 4.5; DatasheetVersion: SLOS352E; PackageVersion: 4073271/F, 05/2011; PackageReference: DGN8-1760X1425TP; PackageDescription: 8-Pin Plastic Small Outline, Body 3 x 3 mm, Pitch 0.65 mm; Supplier 1: Digi-Key; Supplier Part Number 1: THS4502IDGNR-ND; Supplier 2: Mouser; Supplier Part Number 2: 595-THS4502IDGNR; Eco-Plan: Green (RoHS & no Sb/Br); Mounting Technology: Surface Mount; Code_JEDEC: MO-187; ComponentLink1Description: Manufacturer URL; ComponentLink1URL: http://www.ti.com/; ComponentLink2Description: Datasheet; ComponentLink2URL: http://www.ti.com/general/docs/lit/getliterature.tsp?genericPartNumber=THS4502&fileType=pdf; ComponentLink3Description: Package Specification; ComponentLink3URL: http://www.ti.com/litv/pdf/mpds046e
footprint TI-DGN8-1760X1425TP_N (SOP, 8-Leads, Body 3x3mm, Pitch 0.65mm, Thermal Pad 1.76x1.425mm, IPC Medium Density)
footprint TI-DGN8-1760X1425TP_L (SOP, 8-Leads, Body 3x3mm, Pitch 0.65mm, Thermal Pad 1.76x1.425mm, IPC High Density)
footprint TI-DGN8-1760X1425TP_M (SOP, 8-Leads, Body 3x3mm, Pitch 0.65mm, Thermal Pad 1.76 x 1.425 mm, IPC Low Density)
pins: 1 VIN- (in), 2 VOCM (in), 3 VS+ (power), 4 VOUT+ (out), 5 VOUT- (out), 6 VS- (power), 7 ~{PD} (in), 8 VIN+ (in), 9 EP

## THS4502IDGNRG4
designator U?
High-Speed Fully-Differential Amplifier, 4.5 to 15 V, -40 to 85 degC, 8-pin SOP (DGN8), Green (RoHS & no Sb/Br); Manufacturer: Texas Instruments; PartNumber: THS4502IDGNRG4; 2nd Harmonic(dBc): 74; 3rd Harmonic(dBc): 78; @ MHz: 30; BW @ Acl(MHz): 370; Io(Typ)(mA): 120; Iq per channel(Max)(mA): 34; Number of Channels: 1; Offset Voltage Drift (+/-)(Max)(uV/Degrees Celsius: 10; Settling Time (0.1%)(Typ)(ns): 6.3; Slew Rate(Typ)(V/us): 2800; SubFamily: Fully Differential Amplifier; THD (Fc is 1 MHz)(Typ)(dB): -99; Vio(Max)(mV): -4; Vn at Flatband(Typ)(nV/rtHz): 6.8; Vs(Max)(V): 15; Vs(Min)(V): 4.5; DatasheetVersion: SLOS352E; PackageVersion: 4073271/F, 05/2011; PackageReference: DGN8-1760X1425TP; PackageDescription: 8-Pin Plastic Small Outline, Body 3 x 3 mm, Pitch 0.65 mm; Supplier 1: Digi-Key; Supplier Part Number 1: THS4502IDGNRG4-ND; Supplier 2: Mouser; Supplier Part Number 2: 595-THS4502IDGNRG4; Eco-Plan: Green (RoHS & no Sb/Br); Mounting Technology: Surface Mount; Code_JEDEC: MO-187; ComponentLink1Description: Manufacturer URL; ComponentLink1URL: http://www.ti.com/; ComponentLink2Description: Datasheet; ComponentLink2URL: http://www.ti.com/general/docs/lit/getliterature.tsp?genericPartNumber=THS4502&fileType=pdf; ComponentLink3Description: Package Specification; ComponentLink3URL: http://www.ti.com/litv/pdf/mpds046e
footprint TI-DGN8-1760X1425TP_N (SOP, 8-Leads, Body 3x3mm, Pitch 0.65mm, Thermal Pad 1.76x1.425mm, IPC Medium Density)
footprint TI-DGN8-1760X1425TP_L (SOP, 8-Leads, Body 3x3mm, Pitch 0.65mm, Thermal Pad 1.76x1.425mm, IPC High Density)
footprint TI-DGN8-1760X1425TP_M (SOP, 8-Leads, Body 3x3mm, Pitch 0.65mm, Thermal Pad 1.76 x 1.425 mm, IPC Low Density)
pins: 1 VIN- (in), 2 VOCM (in), 3 VS+ (power), 4 VOUT+ (out), 5 VOUT- (out), 6 VS- (power), 7 ~{PD} (in), 8 VIN+ (in), 9 EP

## THS4502IDR
designator U?
High-Speed Fully-Differential Amplifier, 4.5 to 15 V, -40 to 85 degC, 8-pin SOIC (D8), Green (RoHS & no Sb/Br); Manufacturer: Texas Instruments; PartNumber: THS4502IDR; 2nd Harmonic(dBc): 74; 3rd Harmonic(dBc): 78; @ MHz: 30; BW @ Acl(MHz): 370; Io(Typ)(mA): 120; Iq per channel(Max)(mA): 34; Number of Channels: 1; Offset Voltage Drift (+/-)(Max)(uV/Degrees Celsius: 10; Settling Time (0.1%)(Typ)(ns): 6.3; Slew Rate(Typ)(V/us): 2800; SubFamily: Fully Differential Amplifier; THD (Fc is 1 MHz)(Typ)(dB): -99; Vio(Max)(mV): -4; Vn at Flatband(Typ)(nV/rtHz): 6.8; Vs(Max)(V): 15; Vs(Min)(V): 4.5; DatasheetVersion: SLOS352E; PackageVersion: 4040047-3/M, 06/2011; PackageReference: D8; PackageDescription: 8-Pin Plastic Small Outline, Body 4.9 x 3.9 mm, Pitch 1.27 mm; Supplier 1: Digi-Key; Supplier Part Number 1: THS4502IDR-ND; Supplier 2: Mouser; Supplier Part Number 2: 595-THS4502IDR; Eco-Plan: Green (RoHS & no Sb/Br); Mounting Technology: Surface Mount; Code_JEDEC: MS-012; ComponentLink1Description: Manufacturer URL; ComponentLink1URL: http://www.ti.com/; ComponentLink2Description: Datasheet; ComponentLink2URL: http://www.ti.com/general/docs/lit/getliterature.tsp?genericPartNumber=THS4502&fileType=pdf; ComponentLink3Description: Package Specification; ComponentLink3URL: http://www.ti.com/litv/pdf/msoi002j
footprint TI-D8_N (SOIC, 8-Leads, Body 4.9x3.9mm, Pitch 1.27mm, IPC Medium Density)
footprint TI-D8_L (SOIC, 8-Leads, Body 4.9x3.9mm, Pitch 1.27mm, IPC High Density)
footprint TI-D8_M (SOIC, 8-Leads, Body 4.9x3.9mm, Pitch 1.27mm, IPC Low Density)
pins: 1 VIN- (in) "Inverting amplifier input", 2 VOCM (in) "Common-mode voltage input", 3 VS+ (power) "Amplifier positive power-supply input", 4 VOUT+ (out) "Noninverting amplifier output", 5 VOUT- (out) "Inverting amplifier output", 6 VS- (power) "Amplifier negative power-supply input. Note that VS- is tied together on multi-channel devices.", 7 ~{PD} (in) "Power down. P\D\ = logic low puts device into low-power mode. P\D\ = logic high or open for normal operation.", 8 VIN+ (in) "Noninverting amplifier input"

## THS4502IDRG4
designator U?
High-Speed Fully-Differential Amplifier, 4.5 to 15 V, -40 to 85 degC, 8-pin SOIC (D8), Green (RoHS & no Sb/Br); Manufacturer: Texas Instruments; PartNumber: THS4502IDRG4; 2nd Harmonic(dBc): 74; 3rd Harmonic(dBc): 78; @ MHz: 30; BW @ Acl(MHz): 370; Io(Typ)(mA): 120; Iq per channel(Max)(mA): 34; Number of Channels: 1; Offset Voltage Drift (+/-)(Max)(uV/Degrees Celsius: 10; Settling Time (0.1%)(Typ)(ns): 6.3; Slew Rate(Typ)(V/us): 2800; SubFamily: Fully Differential Amplifier; THD (Fc is 1 MHz)(Typ)(dB): -99; Vio(Max)(mV): -4; Vn at Flatband(Typ)(nV/rtHz): 6.8; Vs(Max)(V): 15; Vs(Min)(V): 4.5; DatasheetVersion: SLOS352E; PackageVersion: 4040047-3/M, 06/2011; PackageReference: D8; PackageDescription: 8-Pin Plastic Small Outline, Body 4.9 x 3.9 mm, Pitch 1.27 mm; Supplier 1: Digi-Key; Supplier Part Number 1: THS4502IDRG4-ND; Supplier 2: Mouser; Supplier Part Number 2: 595-THS4502IDRG4; Eco-Plan: Green (RoHS & no Sb/Br); Mounting Technology: Surface Mount; Code_JEDEC: MS-012; ComponentLink1Description: Manufacturer URL; ComponentLink1URL: http://www.ti.com/; ComponentLink2Description: Datasheet; ComponentLink2URL: http://www.ti.com/general/docs/lit/getliterature.tsp?genericPartNumber=THS4502&fileType=pdf; ComponentLink3Description: Package Specification; ComponentLink3URL: http://www.ti.com/litv/pdf/msoi002j
footprint TI-D8_N (SOIC, 8-Leads, Body 4.9x3.9mm, Pitch 1.27mm, IPC Medium Density)
footprint TI-D8_L (SOIC, 8-Leads, Body 4.9x3.9mm, Pitch 1.27mm, IPC High Density)
footprint TI-D8_M (SOIC, 8-Leads, Body 4.9x3.9mm, Pitch 1.27mm, IPC Low Density)
pins: 1 VIN- (in) "Inverting amplifier input", 2 VOCM (in) "Common-mode voltage input", 3 VS+ (power) "Amplifier positive power-supply input", 4 VOUT+ (out) "Noninverting amplifier output", 5 VOUT- (out) "Inverting amplifier output", 6 VS- (power) "Amplifier negative power-supply input. Note that VS- is tied together on multi-channel devices.", 7 ~{PD} (in) "Power down. P\D\ = logic low puts device into low-power mode. P\D\ = logic high or open for normal operation.", 8 VIN+ (in) "Noninverting amplifier input"

## THS4503CD
designator U?
High-Speed Fully-Differential Amplifier, 4.5 to 15 V, 0 to 70 degC, 8-pin SOIC (D8), Green (RoHS & no Sb/Br); Manufacturer: Texas Instruments; PartNumber: THS4503CD; 2nd Harmonic(dBc): 74; 3rd Harmonic(dBc): 78; @ MHz: 30; BW @ Acl(MHz): 370; Io(Typ)(mA): 120; Iq per channel(Max)(mA): 34; Number of Channels: 1; Offset Voltage Drift (+/-)(Max)(uV/Degrees Celsius: 10; Settling Time (0.1%)(Typ)(ns): 6.3; Slew Rate(Typ)(V/us): 2800; SubFamily: Fully Differential Amplifier; THD (Fc is 1 MHz)(Typ)(dB): -99; Vio(Max)(mV): -4; Vn at Flatband(Typ)(nV/rtHz): 6.8; Vs(Max)(V): 15; Vs(Min)(V): 4.5; DatasheetVersion: SLOS352E; PackageVersion: 4040047-3/M, 06/2011; PackageReference: D8; PackageDescription: 8-Pin Plastic Small Outline, Body 4.9 x 3.9 mm, Pitch 1.27 mm; Supplier 1: Digi-Key; Supplier Part Number 1: 296-34227-5-ND; Supplier 2: Newark; Supplier Part Number 2: 73C1674; Supplier 3: Mouser; Supplier Part Number 3: 595-THS4503CD; Eco-Plan: Green (RoHS & no Sb/Br); Mounting Technology: Surface Mount; Code_JEDEC: MS-012; ComponentLink1Description: Manufacturer URL; ComponentLink1URL: http://www.ti.com/; ComponentLink2Description: Datasheet; ComponentLink2URL: http://www.ti.com/general/docs/lit/getliterature.tsp?genericPartNumber=THS4503&fileType=pdf; ComponentLink3Description: Package Specification; ComponentLink3URL: http://www.ti.com/litv/pdf/msoi002j
footprint TI-D8_N (SOIC, 8-Leads, Body 4.9x3.9mm, Pitch 1.27mm, IPC Medium Density)
footprint TI-D8_L (SOIC, 8-Leads, Body 4.9x3.9mm, Pitch 1.27mm, IPC High Density)
footprint TI-D8_M (SOIC, 8-Leads, Body 4.9x3.9mm, Pitch 1.27mm, IPC Low Density)
pins: 1 VIN- (in), 2 VOCM (in), 3 VS+ (power), 4 VOUT+ (out), 5 VOUT- (out), 6 VS- (power), 7 NC, 8 VIN+ (in)

## THS4503CDG4
designator U?
High-Speed Fully-Differential Amplifier, 4.5 to 15 V, 0 to 70 degC, 8-pin SOIC (D8), Green (RoHS & no Sb/Br); Manufacturer: Texas Instruments; PartNumber: THS4503CDG4; 2nd Harmonic(dBc): 74; 3rd Harmonic(dBc): 78; @ MHz: 30; BW @ Acl(MHz): 370; Io(Typ)(mA): 120; Iq per channel(Max)(mA): 34; Number of Channels: 1; Offset Voltage Drift (+/-)(Max)(uV/Degrees Celsius: 10; Settling Time (0.1%)(Typ)(ns): 6.3; Slew Rate(Typ)(V/us): 2800; SubFamily: Fully Differential Amplifier; THD (Fc is 1 MHz)(Typ)(dB): -99; Vio(Max)(mV): -4; Vn at Flatband(Typ)(nV/rtHz): 6.8; Vs(Max)(V): 15; Vs(Min)(V): 4.5; DatasheetVersion: SLOS352E; PackageVersion: 4040047-3/M, 06/2011; PackageReference: D8; PackageDescription: 8-Pin Plastic Small Outline, Body 4.9 x 3.9 mm, Pitch 1.27 mm; Supplier 1: Digi-Key; Supplier Part Number 1: THS4503CDG4-ND; Supplier 2: Mouser; Supplier Part Number 2: 595-THS4503CDG4; Eco-Plan: Green (RoHS & no Sb/Br); Mounting Technology: Surface Mount; Code_JEDEC: MS-012; ComponentLink1Description: Manufacturer URL; ComponentLink1URL: http://www.ti.com/; ComponentLink2Description: Datasheet; ComponentLink2URL: http://www.ti.com/general/docs/lit/getliterature.tsp?genericPartNumber=THS4503&fileType=pdf; ComponentLink3Description: Package Specification; ComponentLink3URL: http://www.ti.com/litv/pdf/msoi002j
footprint TI-D8_N (SOIC, 8-Leads, Body 4.9x3.9mm, Pitch 1.27mm, IPC Medium Density)
footprint TI-D8_L (SOIC, 8-Leads, Body 4.9x3.9mm, Pitch 1.27mm, IPC High Density)
footprint TI-D8_M (SOIC, 8-Leads, Body 4.9x3.9mm, Pitch 1.27mm, IPC Low Density)
pins: 1 VIN- (in), 2 VOCM (in), 3 VS+ (power), 4 VOUT+ (out), 5 VOUT- (out), 6 VS- (power), 7 NC, 8 VIN+ (in)

## THS4503CDGK
designator U?
High-Speed Fully-Differential Amplifier, 4.5 to 15 V, 0 to 70 degC, 8-pin SOP (DGK8), Green (RoHS & no Sb/Br); Manufacturer: Texas Instruments; PartNumber: THS4503CDGK; 2nd Harmonic(dBc): 74; 3rd Harmonic(dBc): 78; @ MHz: 30; BW @ Acl(MHz): 370; Io(Typ)(mA): 120; Iq per channel(Max)(mA): 34; Number of Channels: 1; Offset Voltage Drift (+/-)(Max)(uV/Degrees Celsius: 10; Settling Time (0.1%)(Typ)(ns): 6.3; Slew Rate(Typ)(V/us): 2800; SubFamily: Fully Differential Amplifier; THD (Fc is 1 MHz)(Typ)(dB): -99; Vio(Max)(mV): -4; Vn at Flatband(Typ)(nV/rtHz): 6.8; Vs(Max)(V): 15; Vs(Min)(V): 4.5; DatasheetVersion: SLOS352E; PackageVersion: 4073329/E, 05/2006; PackageReference: DGK8; PackageDescription: 8-Pin Thin Small Outline, Body 3 x 3 mm, Pitch 0.65 mm; Supplier 1: Digi-Key; Supplier Part Number 1: 296-34228-5-ND; Supplier 2: Mouser; Supplier Part Number 2: 595-THS4503CDGK; Eco-Plan: Green (RoHS & no Sb/Br); Mounting Technology: Surface Mount; Code_JEDEC: MO-187; ComponentLink1Description: Manufacturer URL; ComponentLink1URL: http://www.ti.com/; ComponentLink2Description: Datasheet; ComponentLink2URL: http://www.ti.com/general/docs/lit/getliterature.tsp?genericPartNumber=THS4503&fileType=pdf; ComponentLink3Description: Package Specification; ComponentLink3URL: http://www.ti.com/litv/pdf/mpds028d
footprint TI-DGK8_N (SOP, 8-Leads, Body 3x3mm, Pitch 0.65mm, IPC Medium Density)
footprint TI-DGK8_L (SOP, 8-Leads, Body 3x3mm, Pitch 0.65mm, IPC High Density)
footprint TI-DGK8_M (SOP, 8-Leads, Body 3x3mm, Pitch 0.65mm, IPC Low Density)
pins: 1 VIN- (in), 2 VOCM (in), 3 VS+ (power), 4 VOUT+ (out), 5 VOUT- (out), 6 VS- (power), 7 NC, 8 VIN+ (in)

## THS4503CDGKG4
designator U?
High-Speed Fully-Differential Amplifier, 4.5 to 15 V, 0 to 70 degC, 8-pin SOP (DGK8), Green (RoHS & no Sb/Br); Manufacturer: Texas Instruments; PartNumber: THS4503CDGKG4; 2nd Harmonic(dBc): 74; 3rd Harmonic(dBc): 78; @ MHz: 30; BW @ Acl(MHz): 370; Io(Typ)(mA): 120; Iq per channel(Max)(mA): 34; Number of Channels: 1; Offset Voltage Drift (+/-)(Max)(uV/Degrees Celsius: 10; Settling Time (0.1%)(Typ)(ns): 6.3; Slew Rate(Typ)(V/us): 2800; SubFamily: Fully Differential Amplifier; THD (Fc is 1 MHz)(Typ)(dB): -99; Vio(Max)(mV): -4; Vn at Flatband(Typ)(nV/rtHz): 6.8; Vs(Max)(V): 15; Vs(Min)(V): 4.5; DatasheetVersion: SLOS352E; PackageVersion: 4073329/E, 05/2006; PackageReference: DGK8; PackageDescription: 8-Pin Thin Small Outline, Body 3 x 3 mm, Pitch 0.65 mm; Supplier 1: Digi-Key; Supplier Part Number 1: THS4503CDGKG4-ND; Supplier 2: Mouser; Supplier Part Number 2: 595-THS4503CDGKG4; Eco-Plan: Green (RoHS & no Sb/Br); Mounting Technology: Surface Mount; Code_JEDEC: MO-187; ComponentLink1Description: Manufacturer URL; ComponentLink1URL: http://www.ti.com/; ComponentLink2Description: Datasheet; ComponentLink2URL: http://www.ti.com/general/docs/lit/getliterature.tsp?genericPartNumber=THS4503&fileType=pdf; ComponentLink3Description: Package Specification; ComponentLink3URL: http://www.ti.com/litv/pdf/mpds028d
footprint TI-DGK8_N (SOP, 8-Leads, Body 3x3mm, Pitch 0.65mm, IPC Medium Density)
footprint TI-DGK8_L (SOP, 8-Leads, Body 3x3mm, Pitch 0.65mm, IPC High Density)
footprint TI-DGK8_M (SOP, 8-Leads, Body 3x3mm, Pitch 0.65mm, IPC Low Density)
pins: 1 VIN- (in), 2 VOCM (in), 3 VS+ (power), 4 VOUT+ (out), 5 VOUT- (out), 6 VS- (power), 7 NC, 8 VIN+ (in)

## THS4503CDGN
designator U?
High-Speed Fully-Differential Amplifier, 4.5 to 15 V, 0 to 70 degC, 8-pin SOP (DGN8), Green (RoHS & no Sb/Br); Manufacturer: Texas Instruments; PartNumber: THS4503CDGN; 2nd Harmonic(dBc): 74; 3rd Harmonic(dBc): 78; @ MHz: 30; BW @ Acl(MHz): 370; Io(Typ)(mA): 120; Iq per channel(Max)(mA): 34; Number of Channels: 1; Offset Voltage Drift (+/-)(Max)(uV/Degrees Celsius: 10; Settling Time (0.1%)(Typ)(ns): 6.3; Slew Rate(Typ)(V/us): 2800; SubFamily: Fully Differential Amplifier; THD (Fc is 1 MHz)(Typ)(dB): -99; Vio(Max)(mV): -4; Vn at Flatband(Typ)(nV/rtHz): 6.8; Vs(Max)(V): 15; Vs(Min)(V): 4.5; DatasheetVersion: SLOS352E; PackageVersion: 4073271/F, 05/2011; PackageReference: DGN8-1760X1425TP; PackageDescription: 8-Pin Plastic Small Outline, Body 3 x 3 mm, Pitch 0.65 mm; Supplier 1: Digi-Key; Supplier Part Number 1: 296-34229-5-ND; Supplier 2: Newark; Supplier Part Number 2: 76C6473; Supplier 3: Mouser; Supplier Part Number 3: 595-THS4503CDGN; Eco-Plan: Green (RoHS & no Sb/Br); Mounting Technology: Surface Mount; Code_JEDEC: MO-187; ComponentLink1Description: Manufacturer URL; ComponentLink1URL: http://www.ti.com/; ComponentLink2Description: Datasheet; ComponentLink2URL: http://www.ti.com/general/docs/lit/getliterature.tsp?genericPartNumber=THS4503&fileType=pdf; ComponentLink3Description: Package Specification; ComponentLink3URL: http://www.ti.com/litv/pdf/mpds046e
footprint TI-DGN8-1760X1425TP_N (SOP, 8-Leads, Body 3x3mm, Pitch 0.65mm, Thermal Pad 1.76x1.425mm, IPC Medium Density)
footprint TI-DGN8-1760X1425TP_L (SOP, 8-Leads, Body 3x3mm, Pitch 0.65mm, Thermal Pad 1.76x1.425mm, IPC High Density)
footprint TI-DGN8-1760X1425TP_M (SOP, 8-Leads, Body 3x3mm, Pitch 0.65mm, Thermal Pad 1.76 x 1.425 mm, IPC Low Density)
pins: 1 VIN- (in), 2 VOCM (in), 3 VS+ (power), 4 VOUT+ (out), 5 VOUT- (out), 6 VS- (power), 7 NC, 8 VIN+ (in), 9 EP

## THS4503CDGNG4
designator U?
High-Speed Fully-Differential Amplifier, 4.5 to 15 V, 0 to 70 degC, 8-pin SOP (DGN8), Green (RoHS & no Sb/Br); Manufacturer: Texas Instruments; PartNumber: THS4503CDGNG4; 2nd Harmonic(dBc): 74; 3rd Harmonic(dBc): 78; @ MHz: 30; BW @ Acl(MHz): 370; Io(Typ)(mA): 120; Iq per channel(Max)(mA): 34; Number of Channels: 1; Offset Voltage Drift (+/-)(Max)(uV/Degrees Celsius: 10; Settling Time (0.1%)(Typ)(ns): 6.3; Slew Rate(Typ)(V/us): 2800; SubFamily: Fully Differential Amplifier; THD (Fc is 1 MHz)(Typ)(dB): -99; Vio(Max)(mV): -4; Vn at Flatband(Typ)(nV/rtHz): 6.8; Vs(Max)(V): 15; Vs(Min)(V): 4.5; DatasheetVersion: SLOS352E; PackageVersion: 4073271/F, 05/2011; PackageReference: DGN8-1760X1425TP; PackageDescription: 8-Pin Plastic Small Outline, Body 3 x 3 mm, Pitch 0.65 mm; Supplier 1: Digi-Key; Supplier Part Number 1: THS4503CDGNG4-ND; Supplier 2: Mouser; Supplier Part Number 2: 595-THS4503CDGNG4; Eco-Plan: Green (RoHS & no Sb/Br); Mounting Technology: Surface Mount; Code_JEDEC: MO-187; ComponentLink1Description: Manufacturer URL; ComponentLink1URL: http://www.ti.com/; ComponentLink2Description: Datasheet; ComponentLink2URL: http://www.ti.com/general/docs/lit/getliterature.tsp?genericPartNumber=THS4503&fileType=pdf; ComponentLink3Description: Package Specification; ComponentLink3URL: http://www.ti.com/litv/pdf/mpds046e
footprint TI-DGN8-1760X1425TP_N (SOP, 8-Leads, Body 3x3mm, Pitch 0.65mm, Thermal Pad 1.76x1.425mm, IPC Medium Density)
footprint TI-DGN8-1760X1425TP_L (SOP, 8-Leads, Body 3x3mm, Pitch 0.65mm, Thermal Pad 1.76x1.425mm, IPC High Density)
footprint TI-DGN8-1760X1425TP_M (SOP, 8-Leads, Body 3x3mm, Pitch 0.65mm, Thermal Pad 1.76 x 1.425 mm, IPC Low Density)
pins: 1 VIN- (in), 2 VOCM (in), 3 VS+ (power), 4 VOUT+ (out), 5 VOUT- (out), 6 VS- (power), 7 NC, 8 VIN+ (in), 9 EP

## THS4503CDGNR
designator U?
High-Speed Fully-Differential Amplifier, 4.5 to 15 V, 0 to 70 degC, 8-pin SOP (DGN8), Green (RoHS & no Sb/Br); Manufacturer: Texas Instruments; PartNumber: THS4503CDGNR; 2nd Harmonic(dBc): 74; 3rd Harmonic(dBc): 78; @ MHz: 30; BW @ Acl(MHz): 370; Io(Typ)(mA): 120; Iq per channel(Max)(mA): 34; Number of Channels: 1; Offset Voltage Drift (+/-)(Max)(uV/Degrees Celsius: 10; Settling Time (0.1%)(Typ)(ns): 6.3; Slew Rate(Typ)(V/us): 2800; SubFamily: Fully Differential Amplifier; THD (Fc is 1 MHz)(Typ)(dB): -99; Vio(Max)(mV): -4; Vn at Flatband(Typ)(nV/rtHz): 6.8; Vs(Max)(V): 15; Vs(Min)(V): 4.5; DatasheetVersion: SLOS352E; PackageVersion: 4073271/F, 05/2011; PackageReference: DGN8-1760X1425TP; PackageDescription: 8-Pin Plastic Small Outline, Body 3 x 3 mm, Pitch 0.65 mm; Supplier 1: Digi-Key; Supplier Part Number 1: 296-28262-2-ND; Supplier 2: Digi-Key; Supplier Part Number 2: 296-28262-1-ND; Supplier 3: Digi-Key; Supplier Part Number 3: 296-28262-6-ND; Supplier 4: Mouser; Supplier Part Number 4: 595-THS4503CDGNR; Eco-Plan: Green (RoHS & no Sb/Br); Mounting Technology: Surface Mount; Code_JEDEC: MO-187; ComponentLink1Description: Manufacturer URL; ComponentLink1URL: http://www.ti.com/; ComponentLink2Description: Datasheet; ComponentLink2URL: http://www.ti.com/general/docs/lit/getliterature.tsp?genericPartNumber=THS4503&fileType=pdf; ComponentLink3Description: Package Specification; ComponentLink3URL: http://www.ti.com/litv/pdf/mpds046e
footprint TI-DGN8-1760X1425TP_N (SOP, 8-Leads, Body 3x3mm, Pitch 0.65mm, Thermal Pad 1.76x1.425mm, IPC Medium Density)
footprint TI-DGN8-1760X1425TP_L (SOP, 8-Leads, Body 3x3mm, Pitch 0.65mm, Thermal Pad 1.76x1.425mm, IPC High Density)
footprint TI-DGN8-1760X1425TP_M (SOP, 8-Leads, Body 3x3mm, Pitch 0.65mm, Thermal Pad 1.76 x 1.425 mm, IPC Low Density)
pins: 1 VIN- (in), 2 VOCM (in), 3 VS+ (power), 4 VOUT+ (out), 5 VOUT- (out), 6 VS- (power), 7 NC, 8 VIN+ (in), 9 EP